# Altium footprint library Lithium Battery Protection Plate.PcbLib: 1 footprints
Each footprint in its own frame and in the unit in brackets; x right, y up, seen from the top. Pads: shape width x height; smd on the part's side, far side on the other; paste and mask are expansions set on the pad; w line width, h text height; cw(c..) or ccw(c..) is an arc to the next point about the centre after c.
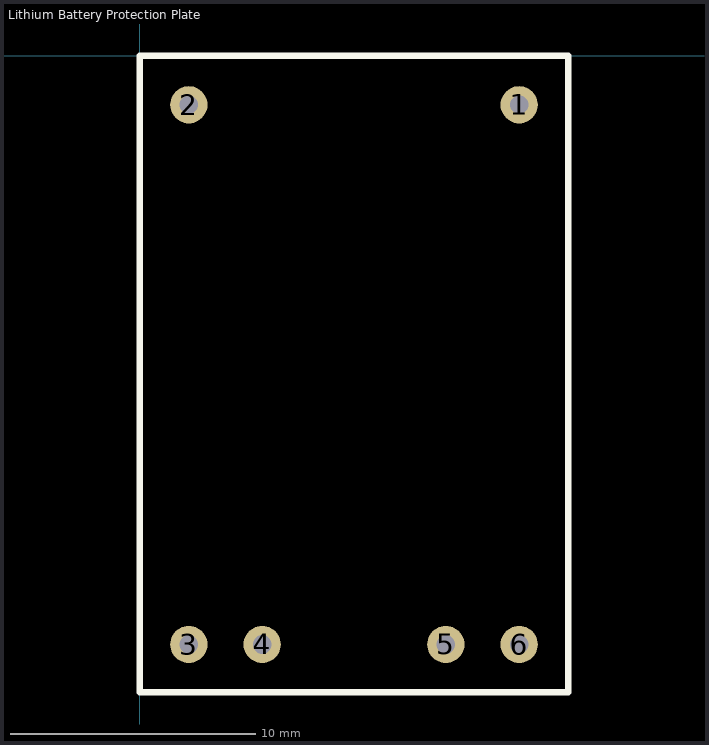
[diagram p0: the footprint, top view; thin cyan lines are the x and y axes]

## Lithium Battery Protection Plate [mil]
pads (6):
  round 60 hole 30: 1(610.24,-78.74) 2(78.74,-78.74) 3(78.74,-946.85) 4(196.85,-946.85) 5(492.13,-946.85) 6(610.24,-946.85)
Top Overlay:
  lines w10: 0,-1023.62 0,0 688.98,0 688.98,-1023.62 0,-1023.62